# EAGLE library part AE-UM232R (library !usb-usart)
FT232RL USB-Serial Converter - AE-UM232R
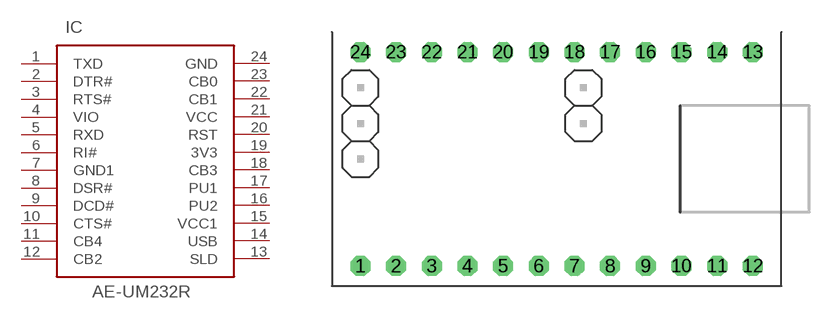
[diagram p0: symbol with the pads of AE-UM232R; footprint AE-UM232R]

Designator prefix IC

## AE-UM232R  [AE-UM232R]
1  TXD
2  DTR#
3  RTS#
4  VIO
5  RXD
6  RI#
7  GND1  pwr
8  DSR#
9  DCD#
10  CTS#
11  CB4
12  CB2
13  SLD
14  USB
15  VCC1  pwr
16  PU2
17  PU1
18  CB3
19  3V3
20  RST
21  VCC  pwr
22  CB1
23  CB0
24  GND  pwr

## Footprint AE-UM232R (pad centres in mm)
drill 0.8 pad 1.422 octagon: 1 -13.97,-7.62; 2 -11.43,-7.62; 3 -8.89,-7.62; 4 -6.35,-7.62; 5 -3.81,-7.62; 6 -1.27,-7.62; 7 1.27,-7.62; 8 3.81,-7.62; 9 6.35,-7.62; 10 8.89,-7.62; 11 11.43,-7.62; 12 13.97,-7.62; 13 13.97,7.62; 14 11.43,7.62; 15 8.89,7.62; 16 6.35,7.62; 17 3.81,7.62; 18 1.27,7.62; 19 -1.27,7.62; 20 -3.81,7.62; 21 -6.35,7.62; 22 -8.89,7.62; 23 -11.43,7.62; 24 -13.97,7.62